# Altium footprint library Control_Board_Model_C201.PcbLib: 124 footprints (part 5 of 8)
Each footprint in its own frame and in the unit in brackets; x right, y up, seen from the top. Pads: shape width x height; smd on the part's side, far side on the other; paste and mask are expansions set on the pad; w line width, h text height; cw(c..) or ccw(c..) is an arc to the next point about the centre after c.
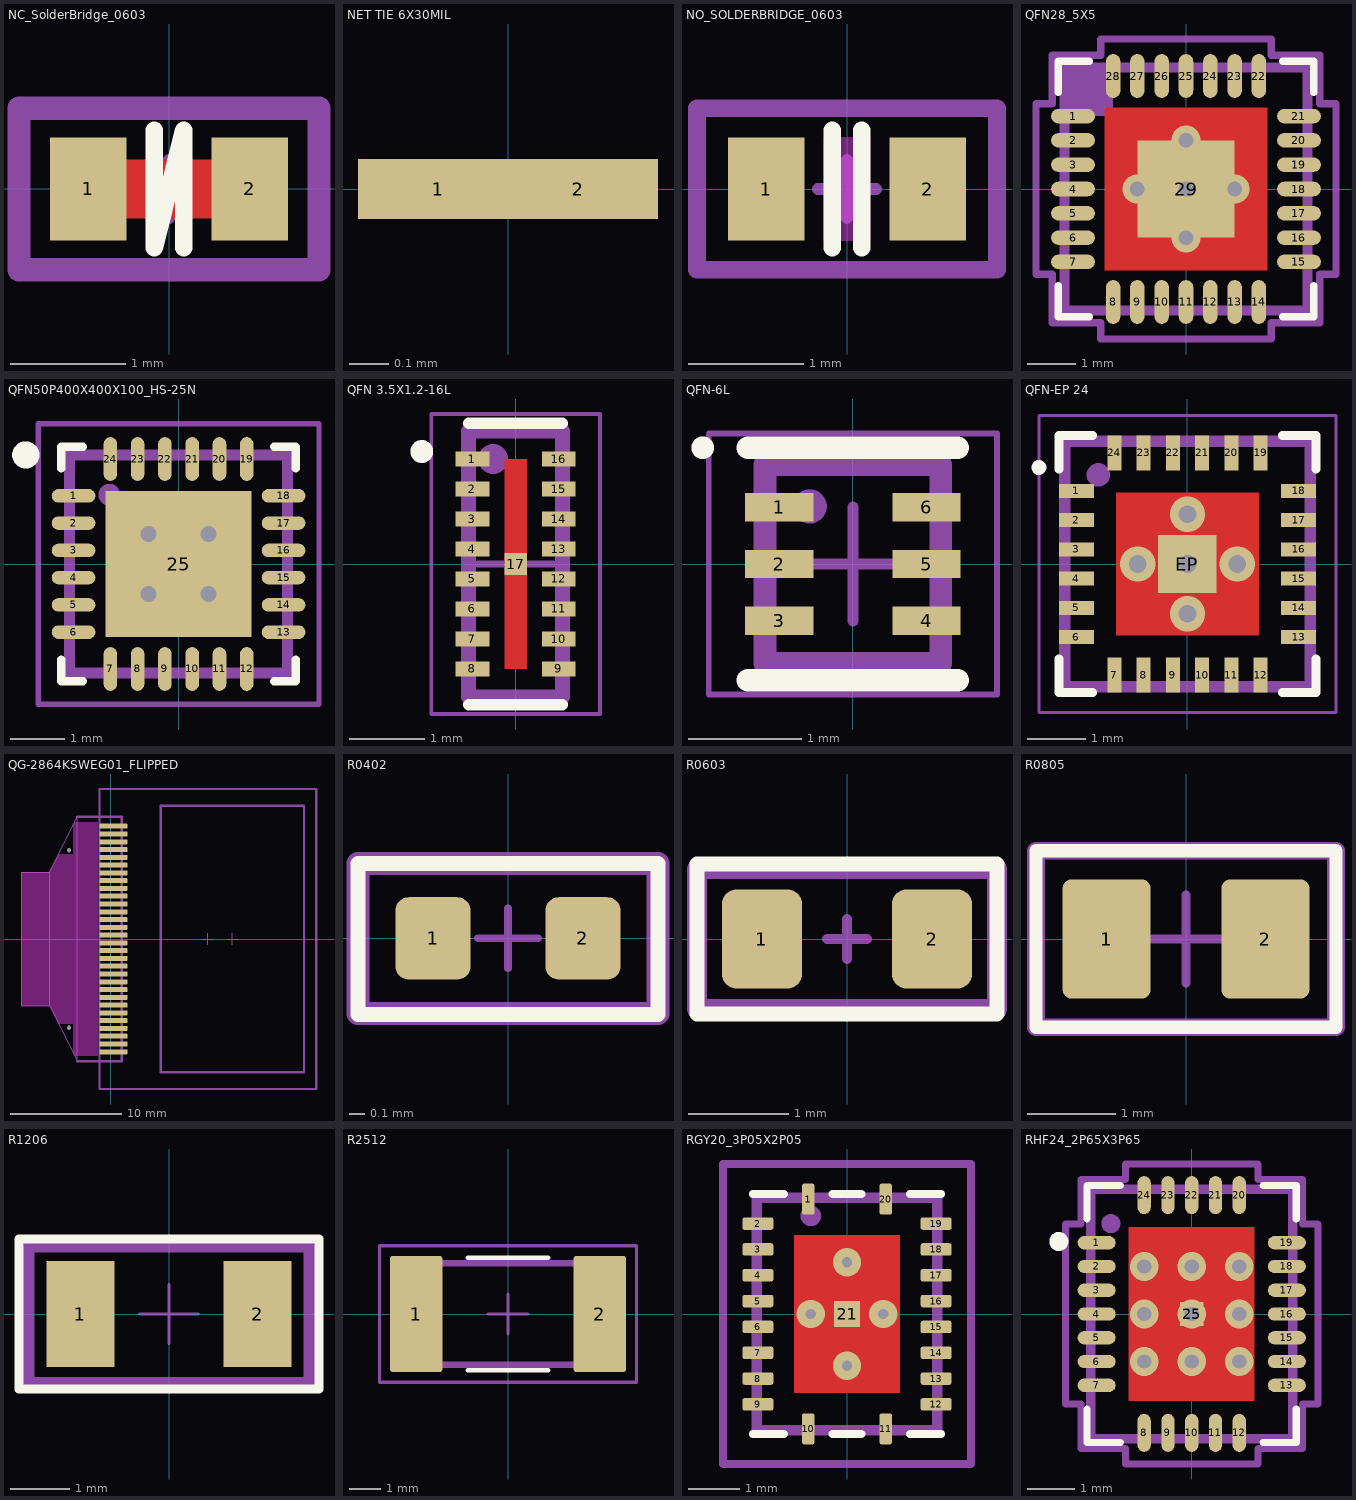
[diagram p4: the footprints below, top view; thin cyan lines are the x and y axes]

## NC_SolderBridge_0603 [mil]
pads (2):
  rect 26x35 smd: 1(-27.56,0) 2(27.56,0)
Top Layer:
  rectangle: -16,-10 16,10
Top Overlay:
  lines w6: -5,20 -5,-20 5,20 5,-20
Mechanical 14:
  lines w7.87: -51.18,-27.56 -51.18,27.56 51.18,27.56 51.18,-27.56 -51.18,-27.56
  text ".Designator" at -39.37,-7.87 h19.68
Mechanical 15:
  lines w1.97: -51.18,-27.56 51.18,-27.56 51.18,27.56 -51.18,27.56 -51.18,-27.56
  lines w3.94: -10,0 10,0 ; 0,-10 0,10

## NET TIE 6X30MIL [mil]
pads (2):
  rect 16x6 smd paste-5 mask-5: 1(-7,0) 2(7,0)
Mechanical 15:
  lines w2: -5,0 5,0 ; 0,-1 0,1

## NO_SOLDERBRIDGE_0603 [mil]
pads (2):
  rect 26x35 smd: 1(-27.56,0) 2(27.56,0)
Top Layer keep-out:
  rectangle: -8,-17.72 8,17.72
Top Overlay:
  lines w6: -5,-20 -5,20 ; 5,-20 5,20
Top Solder:
  rectangle: -45.28,-21.65 45.28,21.65
Mechanical 14:
  lines w5.98: -51.18,-27.56 -51.18,27.56 51.18,27.56 51.18,-27.56 -51.18,-27.56
  text ".Designator" at -31.5,-7.87 h19.68
Mechanical 15:
  lines w1.97: -51.18,-27.56 51.18,-27.56 51.18,27.56 -51.18,27.56 -51.18,-27.56
  lines w3.94: -10,0 10,0 ; 0,-10 0,10

## QFN28_5X5 [mm]
pads (29):
  rrect100% 0.9x0.3 smd paste+0 mask+0.05: 1(-2.324,1.5) 2(-2.324,1) 3(-2.324,0.5) 4(-2.324,0) 5(-2.324,-0.5) 6(-2.324,-1) 7(-2.324,-1.5) 15(2.324,-1.5) 16(2.324,-1) 17(2.324,-0.5) 18(2.324,0) 19(2.324,0.5) 20(2.324,1) 21(2.324,1.5)
  rrect100% 0.3x0.9 smd paste+0 mask+0.05: 8(-1.5,-2.324) 9(-1,-2.324) 10(-0.5,-2.324) 11(0,-2.324) 12(0.5,-2.324) 13(1,-2.324) 14(1.5,-2.324) 22(1.5,2.324) 23(1,2.324) 24(0.5,2.324) 25(0,2.324) 26(-0.5,2.324) 27(-1,2.324) 28(-1.5,2.324)
  rect 2x2 smd paste-2 mask+0.05: 29(0,0)
via 0,0 diameter 0.605 hole 0.3
via -1,0 diameter 0.605 hole 0.3
via 1,0 diameter 0.605 hole 0.3
via 0,1 diameter 0.605 hole 0.3
via 0,-1 diameter 0.605 hole 0.3
Top Layer:
  rectangle: -1.675,-1.675 1.675,1.675
Top Overlay:
  lines w0.152: -2.629,-1.985 -2.629,-2.629 -1.985,-2.629 ; -2.629,1.985 -2.629,2.629 -1.985,2.629 ; 1.985,-2.629 2.629,-2.629 2.629,-1.985 ; 1.985,2.629 2.629,2.629 2.629,1.985
Top Paste:
  region: 1.525,-0.1 0.1,-0.1 0.1,-1.525 1.525,-1.525
  region: 1.525,1.525 0.1,1.525 0.1,0.1 1.525,0.1
  region: -0.1,-0.1 -1.525,-0.1 -1.525,-1.525 -0.1,-1.525
  region: -0.1,1.525 -1.525,1.525 -1.525,0.1 -0.1,0.1
Top Solder:
  rectangle: -1.725,-1.725 1.725,1.725
Mechanical 14:
  rectangle: -2.5,1.5 -1.5,2.5
  lines w0.2: -2.5,-2.5 2.5,-2.5 2.5,2.5 -2.5,2.5 -2.5,-2.5
  text "'.Designator'" at -0.5,-0.2 h0.5
Mechanical 15:
  lines w0.051: -0.5,0 0.5,0 ; 0,-0.5 0,0.5
  lines w0.152: -3.086,-1.75 -3.086,1.75 -2.756,1.75 -2.756,2.756 -1.75,2.756 -1.75,3.086 1.75,3.086 1.75,2.756 2.756,2.756 2.756,1.75 3.086,1.75 3.086,-1.75 2.756,-1.75 2.756,-2.756 1.75,-2.756 1.75,-3.086 -1.75,-3.086 -1.75,-2.756 -2.756,-2.756 -2.756,-1.75 -3.086,-1.75
3D body "QFN28_5X5.stp": height 0.94, standoff 0, extent -2.553,-2.553 2.553,2.553

## QFN50P400X400X100_HS-25N [mm] "QFN, 24-Leads, Body 4.00x4.00mm, Pitch 0.50mm, Thermal Pad 2.68x2.68mm, IPC Medium Density"
height 1
pads (25):
  oval 0.8x0.25 smd: 1(-1.925,1.25) 2(-1.925,0.75) 3(-1.925,0.25) 4(-1.925,-0.25) 5(-1.925,-0.75) 6(-1.925,-1.25) 13(1.925,-1.25) 14(1.925,-0.75) 15(1.925,-0.25) 16(1.925,0.25) 17(1.925,0.75) 18(1.925,1.25)
  oval 0.25x0.8 smd: 7(-1.25,-1.925) 8(-0.75,-1.925) 9(-0.25,-1.925) 10(0.25,-1.925) 11(0.75,-1.925) 12(1.25,-1.925) 19(1.25,1.925) 20(0.75,1.925) 21(0.25,1.925) 22(-0.25,1.925) 23(-0.75,1.925) 24(-1.25,1.925)
  rect 2.68x2.68 smd: 25(0,0)
via -0.55,0.55 diameter 0.6 hole 0.3
via 0.55,0.55 diameter 0.6 hole 0.3
via -0.55,-0.55 diameter 0.6 hole 0.3
via 0.55,-0.55 diameter 0.6 hole 0.3
Top Overlay:
  circle w0.25: c-2.8,2 r0.125
  lines w0.152: -2.15,-1.751 -2.15,-2.15 -1.751,-2.15 ; -2.15,1.751 -2.15,2.15 -1.751,2.15 ; 1.751,-2.15 2.15,-2.15 2.15,-1.751 ; 1.751,2.15 2.15,2.15 2.15,1.751
Mechanical 14:
  circle w0.2: c-1.27,1.27 r0.1
  lines w0.2: -2,-2 -2,2 2,2 2,-2 -2,-2
  text "'.Designator'" at -1,-0.2 h0.5
Mechanical 15:
  lines w0.1: -0.5,0 0.5,0 ; 0,-0.5 0,0.5 ; -2.575,-2.575 -2.575,2.575 2.575,2.575 2.575,-2.575 -2.575,-2.575
3D body "QFN50P400X400X100_HS-25N.step": height 1, standoff 0, extent -2.05,-2.05 2.05,2.05

## QFN 3.5X1.2-16L [mm] "Micro QFN 3.5x1.2-16L footprint"
height 0.5
pads (17):
  rect 0.45x0.2 smd mask+0.05: 1(-0.575,1.4) 2(-0.575,1) 3(-0.575,0.6) 4(-0.575,0.2) 5(-0.575,-0.2) 6(-0.575,-0.6) 7(-0.575,-1) 8(-0.575,-1.4) 9(0.575,-1.4) 10(0.575,-1) 11(0.575,-0.6) 12(0.575,-0.2) 13(0.575,0.2) 14(0.575,0.6) 15(0.575,1) 16(0.575,1.4)
  rect 0.3x0.3 smd mask+0.05: 17(0,0)
Top Layer:
  rectangle: -0.15,-1.4 0.15,1.4
Top Overlay:
  circle w0.152: c-1.25,1.5 r0.076
  lines w0.152: -0.625,-1.875 0.625,-1.875 ; -0.625,1.875 0.625,1.875
Top Paste:
  rectangle: -0.15,-1.4 0.15,1.4
Top Solder:
  rectangle: -0.2,-1.45 0.2,1.45
Mechanical 14:
  circle w0.2: c-0.3,1.4 r0.1
  lines w0.2: -0.625,-1.775 0.625,-1.775 0.625,1.775 -0.625,1.775 -0.625,-1.775
  text "'.Designator'" at -0.4,-0.3 h0.5
Mechanical 15:
  lines w0.051: -1.125,-2 -1.125,2 1.125,2 1.125,-2 -1.125,-2
  lines w0.1: -0.5,0 0.5,0 ; 0,-0.5 0,0.5
3D body "SON40P120X55_HS-17N.step": height 0.55, standoff 0.05, extent -0.625,-1.775 0.625,1.775

## QFN-6L [mm]
height 0.5
pads (6):
  rect 0.6x0.25 smd: 1(-0.65,0.5) 2(-0.65,0) 3(-0.65,-0.5) 4(0.65,-0.5) 5(0.65,0) 6(0.65,0.5)
Top Overlay:
  circle w0.1: c-1.325,1.025 r0.05
  lines w0.2: -0.925,-1.025 0.925,-1.025 ; -0.925,1.025 0.925,1.025
Mechanical 14:
  circle w0.2: c-0.381,0.508 r0.05
  lines w0.2: -0.775,-0.875 -0.775,0.875 0.775,0.875 0.775,-0.875 -0.775,-0.875
  text "'.Designator'" at -0.4,-0.3 h0.5
Mechanical 15:
  lines w0.05: -1.27,-1.15 -1.27,1.15 1.27,1.15 1.27,-1.15 -1.27,-1.15
  lines w0.1: -0.5,0 0.5,0 ; 0,-0.5 0,0.5
3D body "SON50P150X55-6N.step": height 0.55, standoff 0.05, extent -0.775,-0.875 0.775,0.875

## QFN-EP 24 [mm]
height 0.8
pads (25):
  rect 0.6x0.24 smd: 1(-1.9,1.25) 2(-1.9,0.75) 3(-1.9,0.25) 4(-1.9,-0.25) 5(-1.9,-0.75) 6(-1.9,-1.25) 13(1.9,-1.25) 14(1.9,-0.75) 15(1.9,-0.25) 16(1.9,0.25) 17(1.9,0.75) 18(1.9,1.25)
  rect 0.24x0.6 smd: 7(-1.25,-1.9) 8(-0.75,-1.9) 9(-0.25,-1.9) 10(0.25,-1.9) 11(0.75,-1.9) 12(1.25,-1.9) 19(1.25,1.9) 20(0.75,1.9) 21(0.25,1.9) 22(-0.25,1.9) 23(-0.75,1.9) 24(-1.25,1.9)
  rect 1x1 smd paste-10: EP(0,0)
via 0.85,0 diameter 0.605 hole 0.3
via -0.85,0 diameter 0.605 hole 0.3
via 0,-0.85 diameter 0.605 hole 0.3
via 0,0.85 diameter 0.605 hole 0.3
via 0,0 diameter 0.605 hole 0.3
Top Layer:
  rectangle: -1.225,-1.225 1.225,1.225
Top Overlay:
  circle w0.152: c-2.54,1.651 r0.051
  lines w0.152: -2.2,-1.625 -2.2,-2.2 -1.625,-2.2 ; -2.2,1.625 -2.2,2.2 -1.625,2.2 ; 1.625,-2.2 2.2,-2.2 2.2,-1.625 ; 1.625,2.2 2.2,2.2 2.2,1.625
Top Paste:
  rectangle: 0.1,-1 1,-0.1
  rectangle: -1,-1 -0.1,-0.1
  rectangle: -1,0.1 -0.1,1
  rectangle: 0.1,0.1 1,1
Top Solder:
  rectangle: -1.325,-1.325 1.325,1.325
Mechanical 14:
  circle w0.2: c-1.524,1.524 r0.1
  lines w0.2: -2.1,-2.1 -2.1,2.1 2.1,2.1 2.1,-2.1 -2.1,-2.1
  text "'.Designator'" at -0.762,-0.254 h0.5
Mechanical 15:
  lines w0.05: -0.5,0 0.5,0 ; 0,-0.5 0,0.5 ; -2.54,-2.54 2.54,-2.54 2.54,2.54 -2.54,2.54 -2.54,-2.54
3D body "WQFN-24.STEP": height 0.8, standoff 0, extent -2.075,-2.075 2.075,2.075

## QG-2864KSWEG01_FLIPPED [mm] "Folding Type OLED Display Module"
pads (32):
  round 0.3 hole 0.4 unplated mask+0: 0(-3.75,-8) 0(-3.75,8)
  rrect20% 2.5x0.45 smd mask+0.05: 1(0.25,10.15) 2(0.25,9.45) 3(0.25,8.75) 4(0.25,8.05) 5(0.25,7.35) 6(0.25,6.65) 7(0.25,5.95) 8(0.25,5.25) 9(0.25,4.55) 10(0.25,3.85) 11(0.25,3.15) 12(0.25,2.45) 13(0.25,1.75) 14(0.25,1.05) 15(0.25,0.35) 16(0.25,-0.35) 17(0.25,-1.05) 18(0.25,-1.75) 19(0.25,-2.45) 20(0.25,-3.15) 21(0.25,-3.85) 22(0.25,-4.55) 23(0.25,-5.25) 24(0.25,-5.95) 25(0.25,-6.65) 26(0.25,-7.35) 27(0.25,-8.05) 28(0.25,-8.75) 29(0.25,-9.45) 30(0.25,-10.15)
Top Layer keep-out:
  region: -8,6 -5.5,6 -4.675,7.62 -3.378,7.62 -3.378,10.211 -3.25,10.5 -2,10.5 -2,-10.5 -3.25,-10.5 -3.378,-10.216 -3.378,-7.62 -4.699,-7.62 -5.5,-6 -8,-6
  region: -2,10.5 -1.168,10.5 -1.168,-10.5 -2,-10.5
Mechanical 14:
  lines w0.1: 8.25,0 9.25,0 ; 8.75,-0.5 8.75,0.5 ; 10.5,0 11.5,0 ; 10.95,-0.5 10.95,0.5 ; -5.5,-6 -5.5,6 ; -5.5,-6 -3,-11 -3,11 -5.5,6 ; -5.5,-6 -8,-6 -8,6 -5.5,6
  lines w0.2: -3,-11 1,-11 1,11 -3,11 ; -1,-13.5 18.5,-13.5 18.5,13.5 -1,13.5 -1,-13.5 ; 4.5,-12 4.5,12 17.4,12 17.4,-12 4.5,-12
  text "'.Designator'" at 0.2,-0.8 h0.5
  text "1" at 0.5,10 h1.02
  text "30" at 0.5,-10.7 h1.02
3D body: height 7.47, standoff 7.4, extent 4.5,-12 17.4,12
3D body: height 7.4, standoff 6, extent -1,-13.5 18.5,13.5

## R0402 [mm]
pads (2):
  rrect35% 0.5x0.55 smd: 1(-0.5,0) 2(0.5,0)
Top Overlay:
  lines w0.1: -1,-0.508 1,-0.508 1,0.5 -1,0.5 -1,-0.508
Mechanical 14:
  lines w0.152: -1,-0.5 -1,0.5 1,0.5 1,-0.5 -1,-0.5
  text ".Designator" at -0.8,-0.2 h0.5
Mechanical 15:
  lines w0.05: -1,-0.5 1,-0.5 1,0.5 -1,0.5 -1,-0.5
  lines w0.051: -0.2,0 0.2,0 ; 0,-0.2 0,0.2
3D body "RC0402N.step": height 0.71, standoff 0, extent -0.533,-0.254 0.533,0.254

## R0603 [mm]
pads (2):
  rrect35% 0.8x0.991 smd: 1(-0.85,0) 2(0.85,0)
Top Overlay:
  lines w0.152: -1.5,-0.75 1.5,-0.75 1.5,0.75 -1.5,0.75 -1.5,-0.75
Mechanical 14:
  lines w0.2: -1.5,-0.7 -1.5,0.7 1.5,0.7 1.5,-0.7 -1.5,-0.7
  text ".Designator" at -1.3,-0.2 h0.5
Mechanical 15:
  lines w0.1: -0.2,0 0.2,0 ; 0,-0.2 0,0.2 ; -1.5,-0.75 1.5,-0.75 1.5,0.75 -1.5,0.75 -1.5,-0.75
3D body "RC0603N.step": height 0.71, standoff 0, extent -0.8,-0.406 0.8,0.406

## R0805 [mm]
pads (2):
  rrect20% 1x1.35 smd: 1(-0.9,0) 2(0.9,0)
Top Overlay:
  lines w0.152: -1.7,-1 -1.7,1 1.7,1 1.7,-1 -1.7,-1
Mechanical 14:
  lines w0.2: -1.7,-1 1.7,-1 1.7,1 -1.7,1 -1.7,-1
  text ".Designator" at -1,-0.2 h0.5
Mechanical 15:
  lines w0.1: -0.5,0 0.5,0 ; 0,-0.5 0,0.5 ; -1.65,-0.95 1.65,-0.95 1.65,0.95 -1.65,0.95 -1.65,-0.95
3D body "RESC2012X06N.step": height 0.6, standoff 0, extent -1.05,-0.675 1.05,0.675

## R1206 [mm]
height 1.68
pads (2):
  rect 1.15x1.8 smd: 1(-1.5,0) 2(1.5,0)
Top Overlay:
  lines w0.152: -2.54,-1.27 -2.54,1.27 2.54,1.27 2.54,-1.27 -2.54,-1.27
Mechanical 14:
  lines w0.2: -2.375,-1.168 -2.375,1.143 2.375,1.143 2.375,-1.168 -2.375,-1.168
  text ".Designator" at -0.635,-0.254 h0.5
Mechanical 15:
  lines w0.05: -0.5,0 0.5,0 ; 0,-0.5 0,0.5 ; -2.35,-1.15 2.35,-1.15 2.35,1.15 -2.35,1.15 -2.35,-1.15
3D body "RE1206FRE071ML.STEP": height 0.65, standoff 0, extent -1.55,-0.8 1.55,0.8

## R2512 [mm] "RES 2512"
height 0.635
pads (2):
  rrect10% 1.65x3.68 smd: 1(-2.9,0) 2(2.9,0)
Top Overlay:
  lines w0.152: -1.27,-1.778 1.27,-1.778 ; -1.27,1.778 1.27,1.778
Mechanical 14:
  lines w0.2: -3.15,-1.6 3.15,-1.6 3.15,1.6 -3.15,1.6 -3.15,-1.6
  text "'.Designator'" at -1,-0.2 h0.5
Mechanical 15:
  lines w0.1: -0.635,0 0.635,0 ; 0,-0.635 0,0.635 ; -4.064,-2.159 -4.064,2.159 4.064,2.159 4.064,-2.159 -4.064,-2.159
3D body "RC2512N.step": height 0.71, standoff 0, extent -3.15,-1.6 3.15,1.6

## RGY20_3P05X2P05 [mm]
pads (21):
  rrect35% 0.24x0.6 smd mask+0.07: 1(-0.75,2.225) 10(-0.75,-2.225) 11(0.75,-2.225) 20(0.75,2.225)
  rrect35% 0.6x0.24 smd mask+0.07: 2(-1.725,1.75) 3(-1.725,1.25) 4(-1.725,0.75) 5(-1.725,0.25) 6(-1.725,-0.25) 7(-1.725,-0.75) 8(-1.725,-1.25) 9(-1.725,-1.75) 12(1.725,-1.75) 13(1.725,-1.25) 14(1.725,-0.75) 15(1.725,-0.25) 16(1.725,0.25) 17(1.725,0.75) 18(1.725,1.25) 19(1.725,1.75)
  rect 0.5x0.5 smd paste-1.512 mask+0.05: 21(0,0)
via 0,1 diameter 0.55 hole 0.2
via 0.7,0 diameter 0.55 hole 0.2
via 0,-1 diameter 0.55 hole 0.2
via -0.7,0 diameter 0.55 hole 0.2
Top Layer:
  rectangle: -1.025,-1.525 1.025,1.525
  region: 0,-1.525
  region: 0,1.525
Top Overlay:
  lines w0.152: -1.825,-2.325 -1.223,-2.325 ; -1.825,2.325 -1.223,2.325 ; -0.277,-2.325 0.277,-2.325 ; -0.277,2.325 0.277,2.325 ; 1.223,-2.325 1.825,-2.325 ; 1.223,2.325 1.825,2.325
  text "." at -1.27,2.667 h0.5
Top Paste:
  region: 1,1.5 0.1,1.5 0.1,0.2 1,0.2
  rectangle: -1,-1.5 -0.1,-0.2
  region: 1,-0.2 0.1,-0.2 0.1,-1.5 1,-1.5
  rectangle: -1,0.2 -0.1,1.5
Top Solder:
  rectangle: -1.075,-1.575 1.075,1.575
Mechanical 14:
  circle w0.2: c-0.7,1.9 r0.1
  lines w0.2: -1.75,-2.25 -1.75,2.25 1.75,2.25 1.75,-2.25 -1.75,-2.25
  text "'.Designator'" at -0.9,-0.3 h0.5
Mechanical 15:
  lines w0.1: -0.5,0 0.5,0 ; 0,-0.5 0,0.5
  lines w0.152: -2.404,-2.904 2.404,-2.904 2.404,2.904 -2.404,2.904 -2.404,-2.904
3D body "RGY0020A.stp": height 1, standoff 0, extent -1.75,-2.25 1.75,2.25

## RHF24_2P65X3P65 [mm] "Plastic Quad Flatpack No-Lead"
height 1
pads (25):
  rrect100% 0.8x0.28 smd mask+0.05: 1(-2,1.5) 2(-2,1) 3(-2,0.5) 4(-2,0) 5(-2,-0.5) 6(-2,-1) 7(-2,-1.5) 13(2,-1.5) 14(2,-1) 15(2,-0.5) 16(2,0) 17(2,0.5) 18(2,1) 19(2,1.5)
  rrect100% 0.28x0.8 smd mask+0.05: 8(-1,-2.5) 9(-0.5,-2.5) 10(0,-2.5) 11(0.5,-2.5) 12(1,-2.5) 20(1,2.5) 21(0.5,2.5) 22(0,2.5) 23(-0.5,2.5) 24(-1,2.5)
  rect 0.5x0.5 smd paste-2 mask+0: 25(0,0)
via 0,0 diameter 0.605 hole 0.3
via 0,1 diameter 0.605 hole 0.3
via 0,-1 diameter 0.605 hole 0.3
via -1,-1 diameter 0.605 hole 0.3
via -1,0 diameter 0.605 hole 0.3
via -1,1 diameter 0.605 hole 0.3
via 1,1 diameter 0.605 hole 0.3
via 1,0 diameter 0.605 hole 0.3
via 1,-1 diameter 0.605 hole 0.3
Top Layer:
  rectangle: -1.325,-1.825 1.325,1.825
Top Overlay:
  circle w0.2: c-2.794,1.524 r0.1
  lines w0.152: -2.2,-2 -2.2,-2.7 -1.5,-2.7 ; -2.2,2 -2.2,2.7 -1.5,2.7 ; 1.5,-2.7 2.2,-2.7 2.2,-2 ; 1.5,2.7 2.2,2.7 2.2,2
Top Paste:
  region: -0.15,0.15 -0.15,1.55 -1.25,1.55 -1.25,0.15
  region: 0.15,-0.15 0.15,-1.55 1.25,-1.55 1.25,-0.15
  region: 1.25,0.15 1.25,1.55 0.15,1.55 0.15,0.15
  region: -1.25,-0.15 -1.25,-1.55 -0.15,-1.55 -0.15,-0.15
Top Solder:
  rectangle: -1.389,-1.889 1.389,1.889
  region: -1.389,-1.889 -1.389,-1.381 1.389,-1.381 1.389,-1.889
  region: -1.389,-1.889 -1.389,1.889 -0.987,1.889 -0.987,-1.889
  region: -1.389,1.381 -1.389,1.889 1.389,1.889 1.389,1.381
  region: -1.389,0.594 -1.389,0.981 1.389,0.981 1.389,0.594
  region: -1.389,-0.194 -1.389,0.194 1.389,0.194 1.389,-0.194
  region: -1.389,-0.981 -1.389,-0.594 1.389,-0.594 1.389,-0.981
  region: -0.2,-1.889 -0.2,1.889 -0.587,1.889 -0.587,-1.889
  region: 0.587,-1.889 0.587,1.889 0.2,1.889 0.2,-1.889
  region: 0.987,-1.889 0.987,1.889 1.389,1.889 1.389,-1.889
Mechanical 14:
  circle w0.2: c-1.7,1.9 r0.1
  lines w0.2: -2.125,-2.625 2.125,-2.625 2.125,2.625 -2.125,2.625 -2.125,-2.625
  text "'.Designator'" at -0.9,-0.3 h0.5
Mechanical 15:
  lines w0.152: -2.654,-1.894 -2.329,-1.894 -2.329,-2.829 -1.394,-2.829 -1.394,-3.154 1.394,-3.154 1.394,-2.829 2.329,-2.829 2.329,-1.894 2.654,-1.894 2.654,1.894 2.329,1.894 2.329,2.829 1.394,2.829 1.394,3.154 -1.394,3.154 -1.394,2.829 -2.329,2.829 -2.329,1.894 -2.654,1.894 -2.654,-1.894
3D body "RHF24_2P65X3P65_TEX.step": height 1, standoff 0, extent -2.126,-2.626 2.126,2.626